# EAGLE library part SM07B-PASS-TBT(LF)(SN) (library Header_R_ESP32)
CONN HEADER SMD R/A 7POS 2MM Manufacturer's datasheet <http://www.jst-mfg.com/product/pdf/eng/ePA-F.pdf>
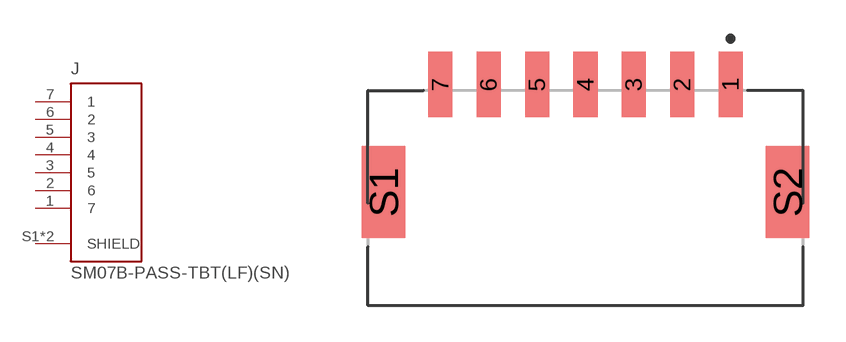
[diagram p25: symbol with the pads of SM07B-PASS-TBT(LF)(SN); footprint SM07B-PASS-TBT(LF)(SN)]

Designator prefix J

## SM07B-PASS-TBT(LF)(SN) (CREATED_BY: PCBLayout.com; DIGIKEY_PN: 455-2648-2-ND; MANUFACTURER: JST Sales America Inc.; MPN: SM07B-PASS-TBT(LF)(SN))  [SM07B-PASS-TBT(LF)(SN)]
1  7  pas
2  6  pas
3  5  pas
4  4  pas
5  3  pas
6  2  pas
7  1  pas
S1  SHIELD  pwr
S2  SHIELD  pwr

## Footprint SM07B-PASS-TBT(LF)(SN) (pad centres in mm)
smd 1 x 2.7: 1 6,2.225; 2 4,2.225; 3 2,2.225; 4 0,2.225; 5 -2,2.225; 6 -4,2.225; 7 -6,2.225
smd 1.8 x 3.8: S1 -8.35,-2.225; S2 8.35,-2.225